# Altium schematic symbol library Microchip.SchLib: 1 symbol
Pins are listed as number, name and electrical type; pins without a type are passive.

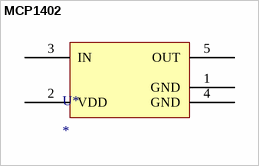
[diagram p0: symbol MCP1402]

## MCP1402
designator U*
footprint SOT23-5
pins: 1 GND, 2 VDD, 3 IN, 4 GND, 5 OUT